# EAGLE library part SBH11-NBPC-D10 (library con-sullins)
HEADER - Vertical, Shrouded
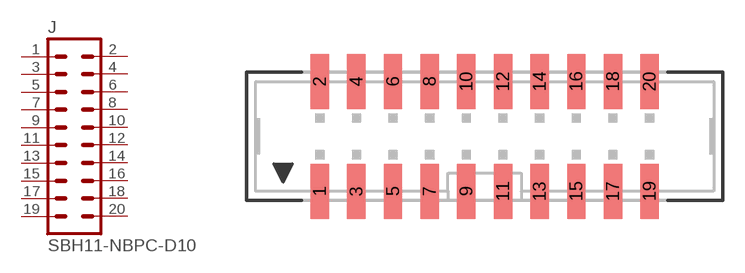
[diagram p24: symbol with the pads of SBH11-NBPC-D10; footprint SBH11-NBPC-D10]

Designator prefix J

## SBH11-NBPC-D10  [SBH11-NBPC-D10]
1  1  pas
2  2  pas
3  3  pas
4  4  pas
5  5  pas
6  6  pas
7  7  pas
8  8  pas
9  9  pas
10  10  pas
11  11  pas
12  12  pas
13  13  pas
14  14  pas
15  15  pas
16  16  pas
17  17  pas
18  18  pas
19  19  pas
20  20  pas

## Footprint SBH11-NBPC-D10 (pad centres in mm)
SMD HEADER - 0.1", Shrouded, Vertical
smd 1.27 x 3.81: 1 -11.43,-3.81; 2 -11.43,3.81; 3 -8.89,-3.81; 4 -8.89,3.81; 5 -6.35,-3.81; 6 -6.35,3.81; 7 -3.81,-3.81; 8 -3.81,3.81; 9 -1.27,-3.81; 10 -1.27,3.81; 11 1.27,-3.81; 12 1.27,3.81; 13 3.81,-3.81; 14 3.81,3.81; 15 6.35,-3.81; 16 6.35,3.81; 17 8.89,-3.81; 18 8.89,3.81; 19 11.43,-3.81; 20 11.43,3.81